# Altium schematic symbol library SCH - MCU - NUVOTON - NUVOTON NUC123ZD4AN0.SchLib: 1 symbol
Pins are listed as number, name and electrical type; pins without a type are passive.

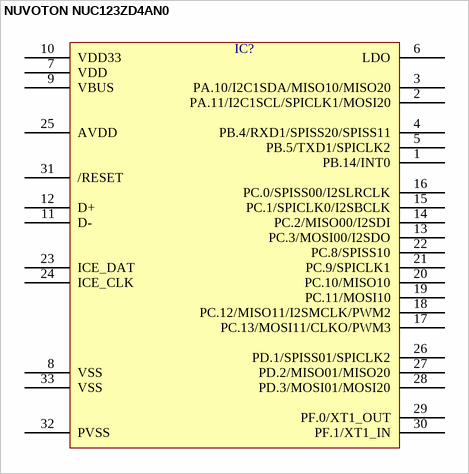
[diagram p0: symbol NUVOTON NUC123ZD4AN0]

## NUVOTON NUC123ZD4AN0
designator IC?  (value not drawn)
pins: 1 PB.14/INT0, 2 PA.11/I2C1SCL/SPICLK1/MOSI20, 3 PA.10/I2C1SDA/MISO10/MISO20, 4 PB.4/RXD1/SPISS20/SPISS11, 5 PB.5/TXD1/SPICLK2, 6 LDO, 7 VDD, 8 VSS, 9 VBUS, 10 VDD33, 11 D-, 12 D+, 13 PC.3/MOSI00/I2SDO, 14 PC.2/MISO00/I2SDI, 15 PC.1/SPICLK0/I2SBCLK, 16 PC.0/SPISS00/I2SLRCLK, 17 PC.13/MOSI11/CLKO/PWM3, 18 PC.12/MISO11/I2SMCLK/PWM2, 19 PC.11/MOSI10, 20 PC.10/MISO10, 21 PC.9/SPICLK1, 22 PC.8/SPISS10, 23 ICE_DAT, 24 ICE_CLK, 25 AVDD, 26 PD.1/SPISS01/SPICLK2, 27 PD.2/MISO01/MISO20, 28 PD.3/MOSI01/MOSI20, 29 PF.0/XT1_OUT, 30 PF.1/XT1_IN, 31 /RESET, 32 PVSS, 33 VSS